# EAGLE library part PGA450TPWRQ1 (library PGA450)
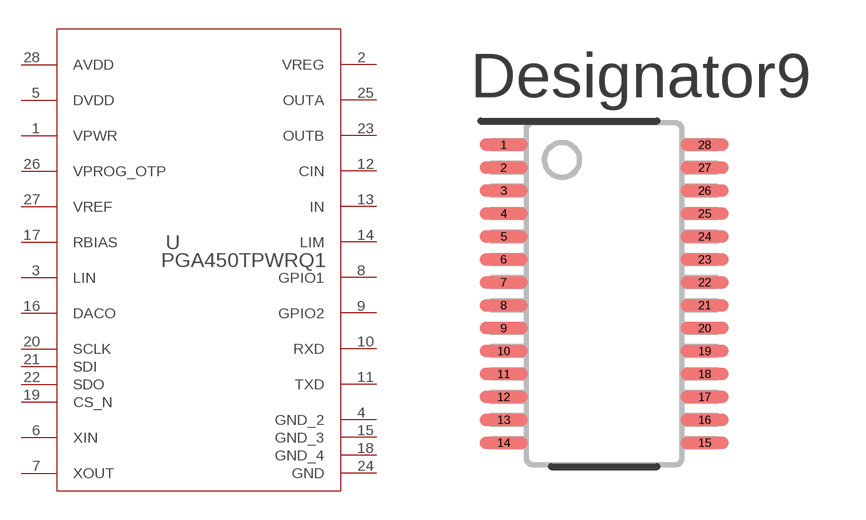
[diagram p0: symbol with the pads of PW0028A_N; footprint PW0028A_N]

Designator prefix U

## PGA450TPWRQ1 (APPLICATION_BUILDNUMBER: *; COMPTYPE: IC; MANUFACTURER: Texas Instruments; MOUNTTYPE: SMT; PACKAGEREFERENCE: PW0028A; PARTNUMBER: PGA450TPWRQ1; PIN_COUNT: 28; REFDES: RefDes; ROHS: Y; TYPE: TYPE; VALUE: Value)  [PW0028A_N]
1  VPWR  pwr
2  VREG  pwr
3  LIN  pas
4  GND_2  pwr
5  DVDD  pwr
6  XIN  pas
7  XOUT  pas
8  GPIO1
9  GPIO2
10  RXD  in
11  TXD  out
12  CIN  pas
13  IN  in
14  LIM  in
15  GND_3  pwr
16  DACO  out
17  RBIAS  pas
18  GND_4  pwr
19  CS_N  in
20  SCLK  in
21  SDI  in
22  SDO  out
23  OUTB  out
24  GND  pwr
25  OUTA  out
26  VPROG_OTP  pwr
27  VREF  pwr
28  AVDD  pwr

## Footprint PW0028A_N (pad centres in mm)
smd 1.35 x 0.35: 1 -2.85,4.225; 2 -2.85,3.575; 3 -2.85,2.925; 4 -2.85,2.275; 5 -2.85,1.625; 6 -2.85,0.975; 7 -2.85,0.325; 8 -2.85,-0.325; 9 -2.85,-0.975; 10 -2.85,-1.625; 11 -2.85,-2.275; 12 -2.85,-2.925; 13 -2.85,-3.575; 14 -2.85,-4.225; 15 2.85,-4.225; 16 2.85,-3.575; 17 2.85,-2.925; 18 2.85,-2.275; 19 2.85,-1.625; 20 2.85,-0.975; 21 2.85,-0.325; 22 2.85,0.325; 23 2.85,0.975; 24 2.85,1.625; 25 2.85,2.275; 26 2.85,2.925; 27 2.85,3.575; 28 2.85,4.225